# EAGLE library part 2X-7SEGMENT-CATHODE (library iStivi - Display)
Double digit 7-segment LED common cathode, 10pin
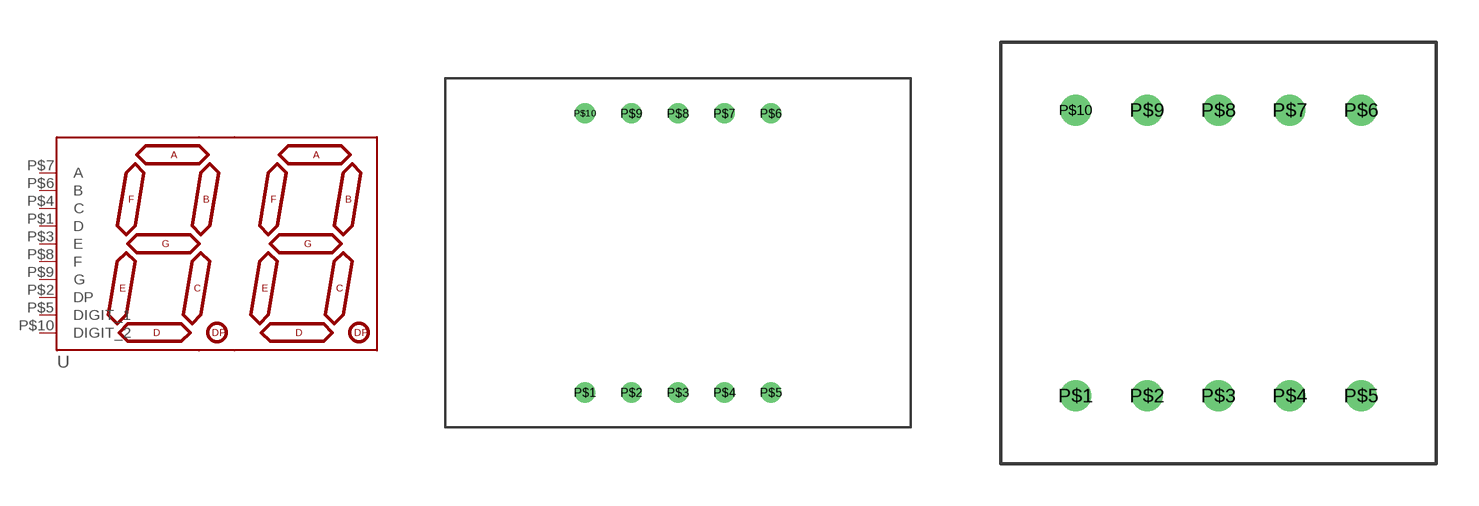
[diagram p1: symbol with the pads of 2X-7SEGMENT-14MM10PIN; footprints 2X-7SEGMENT-14MM10PIN, 2X-7SEGMENT-7MM10PIN]

Designator prefix -

## 2X-7SEGMENT-CATHODE14MM  [2X-7SEGMENT-14MM10PIN]
P$1  D
P$2  DP
P$3  E
P$4  C
P$5  DIGIT_1
P$6  B
P$7  A
P$8  F
P$9  G
P$10  DIGIT_2

## 2X-7SEGMENT-CATHODE7MM  [2X-7SEGMENT-7MM10PIN]
P$1  G
P$2  DP
P$3  A
P$4  F
P$5  DIGIT_2
P$6  D
P$7  E
P$8  C
P$9  B
P$10  DIGIT_1

## Footprint 2X-7SEGMENT-14MM10PIN (pad centres in mm)
Double digit 7-Segment display with 10 pin
drill 0.6: P$1 -5.08,-7.62; P$2 -2.54,-7.62; P$3 0,-7.62; P$4 2.54,-7.62; P$5 5.08,-7.62; P$6 5.08,7.62; P$7 2.54,7.62; P$8 0,7.62; P$9 -2.54,7.62; P$10 -5.08,7.62

## Footprint 2X-7SEGMENT-7MM10PIN (pad centres in mm)
2 digit 7-segment display 10 pins 7mm digits
drill 0.6: P$1 -5.08,-5.08; P$2 -2.54,-5.08; P$3 0,-5.08; P$4 2.54,-5.08; P$5 5.08,-5.08; P$6 5.08,5.08; P$7 2.54,5.08; P$8 0,5.08; P$9 -2.54,5.08; P$10 -5.08,5.08